# Altium schematic symbol library 555.SchLib: 1 symbol
Pins are listed as number, name and electrical type; pins without a type are passive.

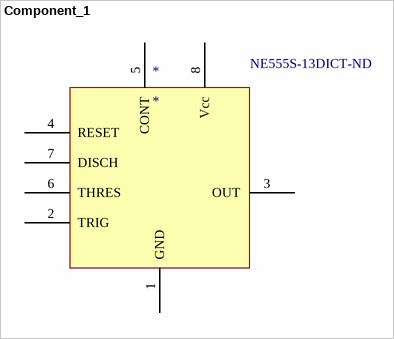
[diagram p0: symbol Component_1]

## Component_1
designator *  Supplier Part Number 2: NE555S-13DICT-ND
Supplier 1: Digi-Key; Supplier 2: Digi-Key
pins: 1 GND "Ground", 2 TRIG "Trigger set 1/3 Vcc", 3 OUT "Output", 4 RESET "Reset active low", 5 CONT "External adjustment of internal threshold and trigger voltages", 6 THRES "Threshold set to 2/3 Vcc", 7 DISCH "Discharge path", 8 Vcc "Supply Voltage"